# Altium footprint library XH2.54.PcbLib: 64 footprints (part 3 of 4)
Each footprint in its own frame and in the unit in brackets; x right, y up, seen from the top. Pads: shape width x height; smd on the part's side, far side on the other; paste and mask are expansions set on the pad; w line width, h text height; cw(c..) or ccw(c..) is an arc to the next point about the centre after c.
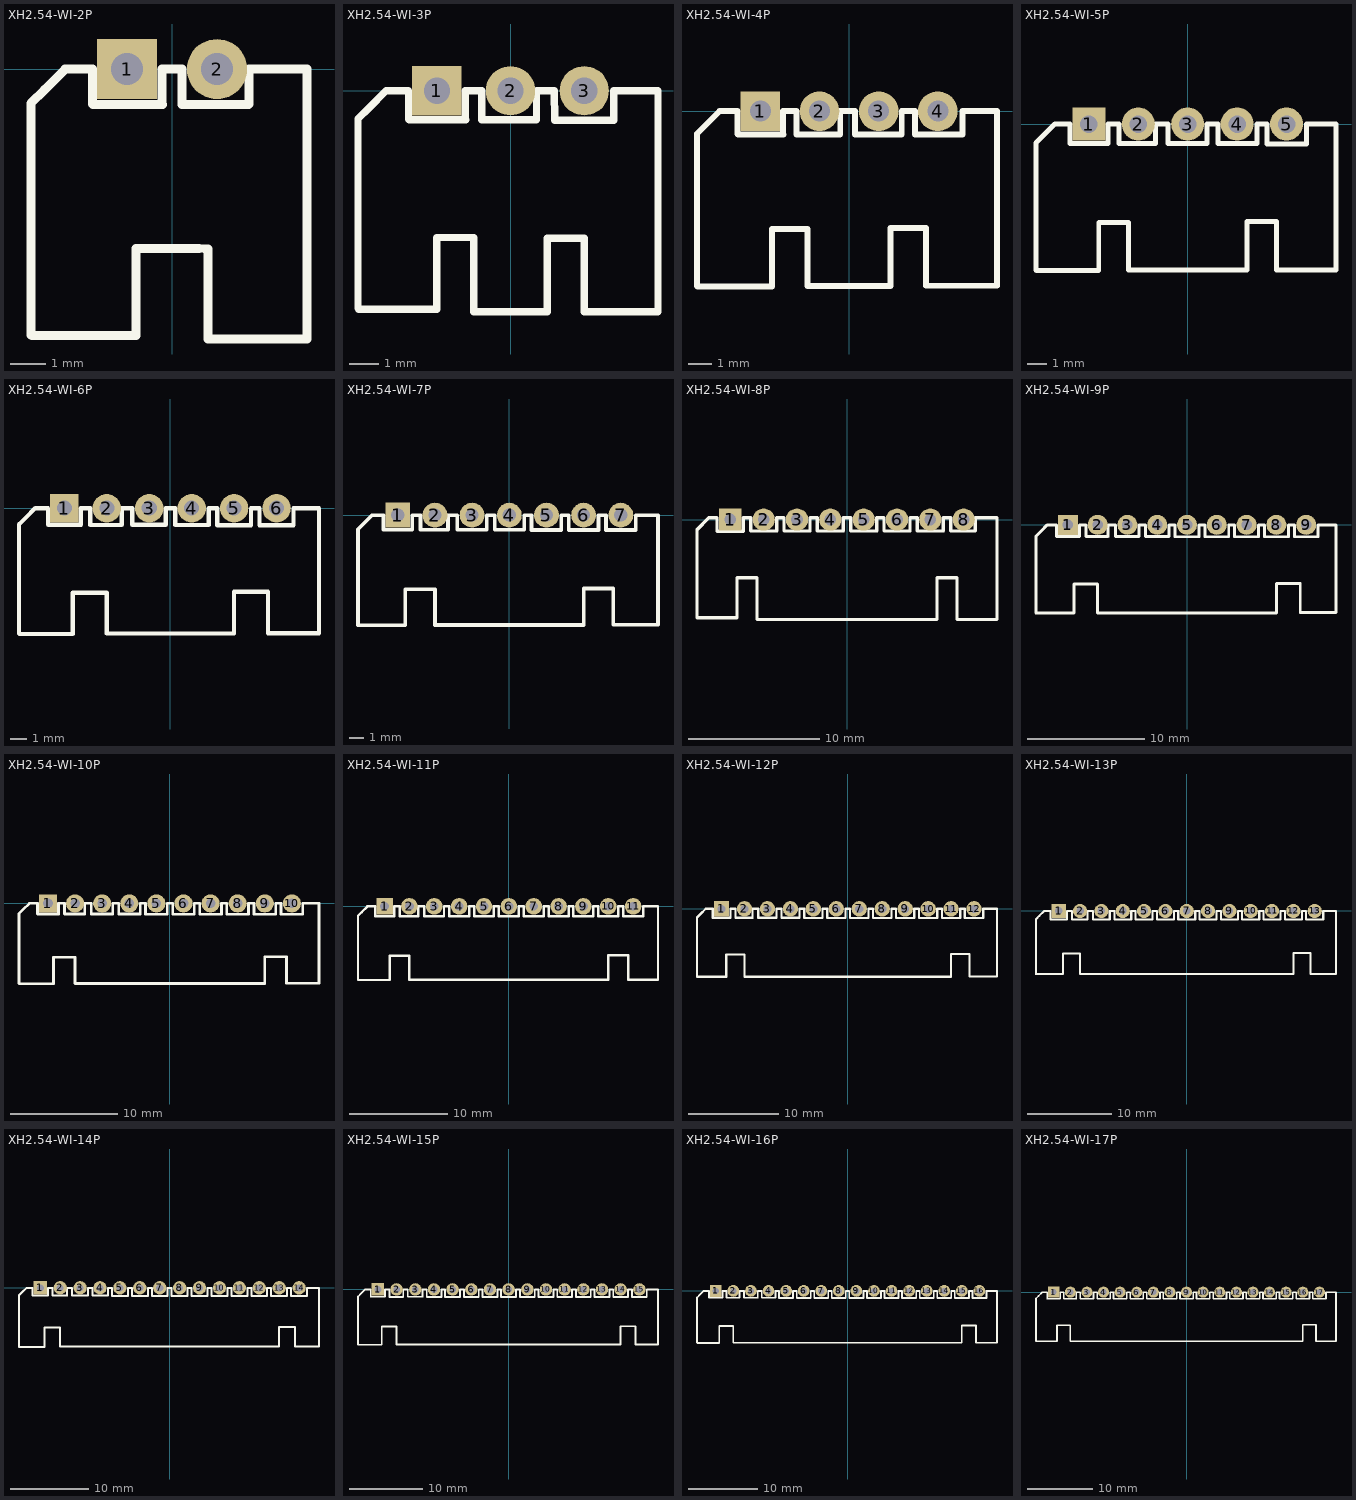
[diagram p2: the footprints below, top view; thin cyan lines are the x and y axes]

## XH2.54-WI-2P [mm] "接插件，2P"
pads (2):
  rect 1.7x1.7 hole 0.9: 1(-1.27,0)
  round 1.7 hole 0.9: 2(1.27,0)
Top Overlay:
  lines w0.254: 2.164,0 2.164,-0.988 2.15,-1.002 0.284,-1.002 0.284,0 -0.288,0 -0.288,-0.982 -0.274,-0.996 -2.23,-0.996 -2.244,-0.982 -2.244,0 -3.02,0 -3.602,-0.582 -3.986,-0.966 -3.986,-7.502 -3.96,-7.528 -1.016,-7.528 -1.016,-5.058 0.762,-5.058 1.016,-5.08 1.016,-7.62 1.27,-7.62 3.81,-7.62 3.81,0 2.774,0 2.176,0
3D body: height 5.73, standoff -3.37, extent -3.77,-7.35 3.77,0.35

## XH2.54-WI-3P [mm] "接插件，3P"
pads (3):
  rect 1.7x1.7 hole 0.9: 1(-2.54,0)
  round 1.7 hole 0.9: 2(0,0) 3(2.54,0)
Top Overlay:
  lines w0.254: 0.894,0 0.894,-0.988 0.88,-1.002 -0.986,-1.002 -0.986,0 -1.558,0 -1.558,-0.982 -1.544,-0.996 -3.5,-0.996 -3.514,-0.982 -3.514,0 -4.29,0 -4.872,-0.582 -5.256,-0.966 -5.256,-7.502 -5.23,-7.528 -2.54,-7.528 -2.54,-5.058 -1.27,-5.058 -1.27,-7.62 0,-7.62 1.27,-7.62 1.27,-5.08 2.54,-5.08 2.54,-7.62 5.08,-7.62 5.08,0 4.044,0 3.556,0 3.556,-1.016 1.524,-1.016 1.504,0 0.906,0
3D body: height 5.73, standoff -3.37, extent -5.04,-7.35 5.04,0.35

## XH2.54-WI-4P [mm] "接插件，4P"
pads (4):
  rect 1.7x1.7 hole 0.9: 1(-3.81,0)
  round 1.7 hole 0.9: 2(-1.27,0) 3(1.27,0) 4(3.81,0)
Top Overlay:
  lines w0.254: -0.376,0 -0.376,-0.988 -0.39,-1.002 -2.256,-1.002 -2.256,0 -2.828,0 -2.828,-0.982 -2.814,-0.996 -4.77,-0.996 -4.784,-0.982 -4.784,0 -5.56,0 -6.142,-0.582 -6.526,-0.966 -6.526,-7.502 -6.5,-7.528 -3.302,-7.528 -3.302,-5.058 -1.778,-5.058 -1.778,-7.502 1.778,-7.502 1.778,-5.006 3.302,-5.006 3.302,-7.49 6.35,-7.49 6.35,0 4.916,0 ; -0.364,0 0.234,0 ; 0.248,-0.996 0.248,0 ; 0.268,-0.996 2.256,-0.996 2.262,-0.99 2.262,0 2.808,0 ; 2.822,0 2.822,-1.002 4.876,-1.002 ; 4.876,-0.976 4.876,0
3D body: height 5.73, standoff -3.37, extent -6.31,-7.35 6.31,0.35

## XH2.54-WI-5P [mm] "接插件，5P"
pads (5):
  rect 1.7x1.7 hole 0.9: 1(-5.08,0)
  round 1.7 hole 0.9: 2(-2.54,0) 3(0,0) 4(2.54,0) 5(5.08,0)
Top Overlay:
  lines w0.254: -1.646,0 -1.646,-0.988 -1.66,-1.002 -3.526,-1.002 -3.526,0 -4.098,0 -4.098,-0.982 -4.084,-0.996 -6.04,-0.996 -6.054,-0.982 -6.054,0 -6.83,0 -7.412,-0.582 -7.796,-0.966 -7.796,-7.502 -7.77,-7.528 -4.572,-7.528 -4.572,-5.058 -3.048,-5.058 -3.048,-7.502 3.048,-7.502 3.048,-5.006 4.572,-5.006 4.572,-7.49 7.62,-7.49 7.62,0 6.096,0 6.096,-1.016 4.064,-1.016 4.064,0 3.556,0 3.556,-1.002 1.552,-1.002 1.552,0 ; -1.634,0 -1.036,0 ; -1.022,-0.996 -1.022,0 ; -1.002,-0.996 0.986,-0.996 0.992,-0.99 0.992,0 1.538,0
3D body: height 5.73, standoff -3.37, extent -7.58,-7.35 7.58,0.35

## XH2.54-WI-6P [mm] "接插件，6P"
pads (6):
  rect 1.7x1.7 hole 0.9: 1(-6.35,0)
  round 1.7 hole 0.9: 2(-3.81,0) 3(-1.27,0) 4(1.27,0) 5(3.81,0) 6(6.35,0)
Top Overlay:
  lines w0.254: -2.916,0 -2.916,-0.988 -2.93,-1.002 -4.796,-1.002 -4.796,0 -5.368,0 -5.368,-0.982 -5.354,-0.996 -7.31,-0.996 -7.324,-0.982 -7.324,0 -8.1,0 -8.682,-0.582 -9.066,-0.966 -9.066,-7.502 -9.04,-7.528 -5.842,-7.528 -5.842,-5.058 -3.81,-5.058 -3.81,-7.502 3.81,-7.502 3.81,-5.006 5.842,-5.006 5.842,-7.49 8.89,-7.49 8.89,0 7.366,0 7.366,-1.016 5.334,-1.016 5.334,0 4.826,0 4.826,-1.016 2.794,-1.016 2.794,0 2.286,0 2.286,-1.002 0.282,-1.002 0.282,0 ; -2.904,0 -2.306,0 ; -2.292,-0.996 -2.292,0 ; -2.272,-0.996 -0.284,-0.996 -0.278,-0.99 -0.278,0 0.268,0
3D body: height 5.75, standoff -3.35, extent -8.85,-7.35 8.85,0.35

## XH2.54-WI-7P [mm] "接插件，7P"
pads (7):
  rect 1.7x1.7 hole 0.9: 1(-7.62,0)
  round 1.7 hole 0.9: 2(-5.08,0) 3(-2.54,0) 4(0,0) 5(2.54,0) 6(5.08,0) 7(7.62,0)
Top Overlay:
  lines w0.254: -4.186,0 -4.186,-0.988 -4.2,-1.002 -6.066,-1.002 -6.066,0 -6.638,0 -6.638,-0.982 -6.624,-0.996 -8.58,-0.996 -8.594,-0.982 -8.594,0 -9.37,0 -9.952,-0.582 -10.336,-0.966 -10.336,-7.502 -10.31,-7.528 -7.112,-7.528 -7.112,-5.058 -5.08,-5.058 -5.08,-7.502 5.08,-7.502 5.08,-5.006 7.112,-5.006 7.112,-7.49 10.16,-7.49 10.16,0 8.636,0 8.636,-1.016 6.604,-1.016 6.604,0 6.096,0 6.096,-1.016 4.064,-1.016 4.064,0 3.556,0 3.556,-1.016 1.524,-1.016 1.524,0 1.016,0 1.016,-1.002 -0.988,-1.002 -0.988,0 ; -4.174,0 -3.576,0 ; -3.562,-0.996 -3.562,0 ; -3.542,-0.996 -1.554,-0.996 -1.548,-0.99 -1.548,0 -1.002,0
3D body: height 5.75, standoff -3.35, extent -10.12,-7.35 10.12,0.35

## XH2.54-WI-8P [mm] "接插件，8P"
pads (8):
  rect 1.7x1.7 hole 0.9: 1(-8.89,0)
  round 1.7 hole 0.9: 2(-6.35,0) 3(-3.81,0) 4(-1.27,0) 5(1.27,0) 6(3.81,0) 7(6.35,0) 8(8.89,0)
Top Overlay:
  lines w0.254: -7.352,0.127 -7.898,0.127 -7.898,-0.889 -9.906,-0.889 -9.906,0.127 -10.541,0.127 -11.43,-0.762 -11.43,-7.485 -8.382,-7.485 -8.382,-4.445 -6.858,-4.445 -6.858,-7.62 6.858,-7.62 6.858,-4.445 8.382,-4.445 8.382,-7.62 11.43,-7.62 11.43,0.127 9.779,0.127 9.779,-0.762 9.779,-0.875 7.902,-0.875 7.902,0.127 ; -7.338,0.127 -7.338,-0.875 -5.37,-0.875 -5.358,-0.863 -5.358,0.127 -4.812,0.127 ; -4.798,0.127 -4.798,-0.875 -2.83,-0.875 -2.818,-0.863 -2.818,0.127 -2.272,0.127 ; -2.258,0.127 -2.258,-0.875 -0.29,-0.875 -0.278,-0.863 -0.278,0.127 0.268,0.127 ; 0.282,0.127 0.282,-0.875 2.25,-0.875 2.262,-0.863 2.262,0.127 2.808,0.127 ; 2.822,0.127 2.822,-0.875 4.79,-0.875 4.802,-0.863 4.802,0.127 5.348,0.127 ; 5.362,0.127 5.362,-0.875 7.33,-0.875 7.342,-0.863 7.342,0.127 7.888,0.127
3D body: height 5.75, standoff -3.35, extent -11.39,-7.35 11.39,0.35

## XH2.54-WI-9P [mm] "接插件，9P"
pads (9):
  rect 1.7x1.7 hole 0.9: 1(-10.16,0)
  round 1.7 hole 0.9: 2(-7.62,0) 3(-5.08,0) 4(-2.54,0) 5(0,0) 6(2.54,0) 7(5.08,0) 8(7.62,0) 9(10.16,0)
Top Overlay:
  lines w0.254: -6.726,0 -6.726,-0.988 -6.74,-1.002 -8.606,-1.002 -8.606,0 -9.178,0 -9.178,-0.982 -9.164,-0.996 -11.12,-0.996 -11.134,-0.982 -11.134,0 -11.91,0 -12.492,-0.582 -12.876,-0.966 -12.876,-7.502 -12.85,-7.528 -9.652,-7.528 -9.652,-5.058 -7.62,-5.058 -7.62,-7.502 7.62,-7.502 7.62,-5.006 9.652,-5.006 9.652,-7.49 12.7,-7.49 12.7,0 11.176,0 11.176,-1.016 9.144,-1.016 9.144,0 8.636,0 8.636,-1.016 6.604,-1.016 6.604,0 6.096,0 6.096,-1.016 4.064,-1.016 4.064,0 3.556,0 3.556,-1.016 1.524,-1.016 1.524,0 1.016,0 1.016,-1.016 -1.016,-1.016 -1.016,0 -1.524,0 -1.524,-1.002 -3.528,-1.002 -3.528,0 ; -6.714,0 -6.116,0 ; -6.102,-0.996 -6.102,0 ; -6.082,-0.996 -4.094,-0.996 -4.088,-0.99 -4.088,0 -3.542,0
3D body: height 5.75, standoff -3.35, extent -12.66,-7.35 12.66,0.35

## XH2.54-WI-10P [mm] "接插件，10P"
pads (10):
  rect 1.7x1.7 hole 0.9: 1(-11.43,0)
  round 1.7 hole 0.9: 2(-8.89,0) 3(-6.35,0) 4(-3.81,0) 5(-1.27,0) 6(1.27,0) 7(3.81,0) 8(6.35,0) 9(8.89,0) 10(11.43,0)
Top Overlay:
  lines w0.254: -7.996,0 -7.996,-0.988 -8.01,-1.002 -9.876,-1.002 -9.876,0 -10.448,0 -10.448,-0.982 -10.434,-0.996 -12.39,-0.996 -12.404,-0.982 -12.404,0 -13.18,0 -13.762,-0.582 -14.146,-0.966 -14.146,-7.502 -14.12,-7.528 -10.922,-7.528 -10.922,-5.058 -8.89,-5.058 -8.89,-7.502 8.89,-7.502 8.89,-5.006 10.922,-5.006 10.922,-7.49 13.97,-7.49 13.97,0 12.446,0 12.446,-1.016 10.414,-1.016 10.414,0 9.906,0 9.906,-1.016 7.874,-1.016 7.874,0 7.366,0 7.366,-1.016 5.334,-1.016 5.334,0 4.826,0 4.826,-1.016 2.794,-1.016 2.794,0 2.286,0 2.286,-1.016 0.254,-1.016 0.254,0 -0.254,0 -0.254,-1.016 -2.286,-1.016 -2.286,0 -2.794,0 -2.794,-1.002 -4.798,-1.002 -4.798,0 ; -7.984,0 -7.386,0 ; -7.372,-0.996 -7.372,0 ; -7.352,-0.996 -5.364,-0.996 -5.358,-0.99 -5.358,0 -4.812,0
3D body: height 5.73, standoff -3.37, extent -13.93,-7.35 13.93,0.35

## XH2.54-WI-11P [mm] "接插件，11P"
pads (11):
  rect 1.7x1.7 hole 0.9: 1(-12.7,0)
  round 1.7 hole 0.9: 2(-10.16,0) 3(-7.62,0) 4(-5.08,0) 5(-2.54,0) 6(0,0) 7(2.54,0) 8(5.08,0) 9(7.62,0) 10(10.16,0) 11(12.7,0)
Top Overlay:
  lines w0.254: -9.266,0 -9.266,-0.988 -9.28,-1.002 -11.146,-1.002 -11.146,0 -11.718,0 -11.718,-0.982 -11.704,-0.996 -13.66,-0.996 -13.674,-0.982 -13.674,0 -14.45,0 -15.032,-0.582 -15.416,-0.966 -15.416,-7.502 -15.39,-7.528 -12.192,-7.528 -12.192,-5.058 -10.16,-5.058 -10.16,-7.502 10.16,-7.502 10.16,-5.006 12.192,-5.006 12.192,-7.49 15.24,-7.49 15.24,0 13.716,0 13.716,-1.016 11.684,-1.016 11.684,0 11.176,0 11.176,-1.016 9.144,-1.016 9.144,0 8.636,0 8.636,-1.016 6.604,-1.016 6.604,0 6.096,0 6.096,-1.016 4.064,-1.016 4.064,0 3.556,0 3.556,-1.016 1.524,-1.016 1.524,0 1.016,0 1.016,-1.016 -1.016,-1.016 -1.016,0 -1.524,0 -1.524,-1.016 -3.556,-1.016 -3.556,0 -4.064,0 -4.064,-1.002 -6.068,-1.002 -6.068,0 ; -9.254,0 -8.656,0 ; -8.642,-0.996 -8.642,0 ; -8.622,-0.996 -6.634,-0.996 -6.628,-0.99 -6.628,0 -6.082,0
3D body: height 5.73, standoff -3.37, extent -15.2,-7.35 15.2,0.35

## XH2.54-WI-12P [mm] "接插件，12P"
pads (12):
  rect 1.7x1.7 hole 0.9: 1(-13.97,0)
  round 1.7 hole 0.9: 2(-11.43,0) 3(-8.89,0) 4(-6.35,0) 5(-3.81,0) 6(-1.27,0) 7(1.27,0) 8(3.81,0) 9(6.35,0) 10(8.89,0) 11(11.43,0) 12(13.97,0)
Top Overlay:
  lines w0.254: -10.536,0 -10.536,-0.988 -10.55,-1.002 -12.416,-1.002 -12.416,0 -12.988,0 -12.988,-0.982 -12.974,-0.996 -14.93,-0.996 -14.944,-0.982 -14.944,0 -15.72,0 -16.302,-0.582 -16.686,-0.966 -16.686,-7.502 -16.66,-7.528 -13.462,-7.528 -13.462,-5.058 -11.43,-5.058 -11.43,-7.502 11.43,-7.502 11.43,-5.006 13.462,-5.006 13.462,-7.49 16.51,-7.49 16.51,0 14.986,0 14.986,-1.016 12.954,-1.016 12.954,0 12.446,0 12.446,-1.016 10.414,-1.016 10.414,0 9.906,0 9.906,-1.016 7.874,-1.016 7.874,0 7.366,0 7.366,-1.016 5.334,-1.016 5.334,0 4.826,0 4.826,-1.016 2.794,-1.016 2.794,0 2.286,0 2.286,-1.016 0.254,-1.016 0.254,0 -0.254,0 -0.254,-1.016 -2.286,-1.016 -2.286,0 -2.794,0 -2.794,-1.016 -4.826,-1.016 -4.826,0 -5.334,0 -5.334,-1.002 -7.338,-1.002 -7.338,0 ; -10.524,0 -9.926,0 ; -9.912,-0.996 -9.912,0 ; -9.892,-0.996 -7.904,-0.996 -7.898,-0.99 -7.898,0 -7.352,0
3D body: height 5.75, standoff -3.35, extent -16.47,-7.35 16.47,0.35

## XH2.54-WI-13P [mm] "接插件，13P"
pads (13):
  rect 1.7x1.7 hole 0.9: 1(-15.24,0)
  round 1.7 hole 0.9: 2(-12.7,0) 3(-10.16,0) 4(-7.62,0) 5(-5.08,0) 6(-2.54,0) 7(0,0) 8(2.54,0) 9(5.08,0) 10(7.62,0) 11(10.16,0) 12(12.7,0) 13(15.24,0)
Top Overlay:
  lines w0.254: -11.806,0 -11.806,-0.988 -11.82,-1.002 -13.686,-1.002 -13.686,0 -14.258,0 -14.258,-0.982 -14.244,-0.996 -16.2,-0.996 -16.214,-0.982 -16.214,0 -16.99,0 -17.572,-0.582 -17.956,-0.966 -17.956,-7.502 -17.93,-7.528 -14.732,-7.528 -14.732,-5.058 -12.7,-5.058 -12.7,-7.502 12.7,-7.502 12.7,-5.006 14.732,-5.006 14.732,-7.49 17.78,-7.49 17.78,0 16.256,0 16.256,-1.016 14.224,-1.016 14.224,0 13.716,0 13.716,-1.016 11.684,-1.016 11.684,0 11.176,0 11.176,-1.016 9.144,-1.016 9.144,0 8.636,0 8.636,-1.016 6.604,-1.016 6.604,0 6.096,0 6.096,-1.016 4.064,-1.016 4.064,0 3.556,0 3.556,-1.016 1.524,-1.016 1.524,0 1.016,0 1.016,-1.016 -1.016,-1.016 -1.016,0 -1.524,0 -1.524,-1.016 -3.556,-1.016 -3.556,0 -4.064,0 -4.064,-1.016 -6.096,-1.016 -6.096,0 -6.604,0 -6.604,-1.002 -8.608,-1.002 -8.608,0 ; -11.794,0 -11.196,0 ; -11.182,-0.996 -11.182,0 ; -11.162,-0.996 -9.174,-0.996 -9.168,-0.99 -9.168,0 -8.622,0
3D body: height 5.75, standoff -3.35, extent -17.74,-7.35 17.74,0.35

## XH2.54-WI-14P [mm] "接插件，14P"
pads (14):
  rect 1.7x1.7 hole 0.9: 1(-16.51,0)
  round 1.7 hole 0.9: 2(-13.97,0) 3(-11.43,0) 4(-8.89,0) 5(-6.35,0) 6(-3.81,0) 7(-1.27,0) 8(1.27,0) 9(3.81,0) 10(6.35,0) 11(8.89,0) 12(11.43,0) 13(13.97,0) 14(16.51,0)
Top Overlay:
  lines w0.254: -13.076,0 -13.076,-0.988 -13.09,-1.002 -14.956,-1.002 -14.956,0 -15.528,0 -15.528,-0.982 -15.514,-0.996 -17.47,-0.996 -17.484,-0.982 -17.484,0 -18.26,0 -18.842,-0.582 -19.226,-0.966 -19.226,-7.502 -19.2,-7.528 -16.002,-7.528 -16.002,-5.058 -13.97,-5.058 -13.97,-7.502 13.97,-7.502 13.97,-5.006 16.002,-5.006 16.002,-7.49 19.05,-7.49 19.05,0 17.526,0 17.526,-1.016 15.494,-1.016 15.494,0 14.986,0 14.986,-1.016 12.954,-1.016 12.954,0 12.446,0 12.446,-1.016 10.414,-1.016 10.414,0 9.906,0 9.906,-1.016 7.874,-1.016 7.874,0 7.366,0 7.366,-1.016 5.334,-1.016 5.334,0 4.826,0 4.826,-1.016 2.794,-1.016 2.794,0 2.286,0 2.286,-1.016 0.254,-1.016 0.254,0 -0.254,0 -0.254,-1.016 -2.286,-1.016 -2.286,0 -2.794,0 -2.794,-1.016 -4.826,-1.016 -4.826,0 -5.334,0 -5.334,-1.016 -7.366,-1.016 -7.366,0 -7.874,0 -7.874,-1.002 -9.878,-1.002 -9.878,0 ; -13.064,0 -12.466,0 ; -12.452,-0.996 -12.452,0 ; -12.432,-0.996 -10.444,-0.996 -10.438,-0.99 -10.438,0 -9.892,0
3D body: height 5.75, standoff -3.35, extent -19.01,-7.35 19.01,0.35

## XH2.54-WI-15P [mm] "接插件，15P"
pads (15):
  rect 1.7x1.7 hole 0.9: 1(-17.78,0)
  round 1.7 hole 0.9: 2(-15.24,0) 3(-12.7,0) 4(-10.16,0) 5(-7.62,0) 6(-5.08,0) 7(-2.54,0) 8(0,0) 9(2.54,0) 10(5.08,0) 11(7.62,0) 12(10.16,0) 13(12.7,0) 14(15.24,0) 15(17.78,0)
Top Overlay:
  lines w0.254: -14.346,0 -14.346,-0.988 -14.36,-1.002 -16.226,-1.002 -16.226,0 -16.798,0 -16.798,-0.982 -16.784,-0.996 -18.74,-0.996 -18.754,-0.982 -18.754,0 -19.53,0 -20.112,-0.582 -20.496,-0.966 -20.496,-7.502 -20.47,-7.528 -17.272,-7.528 -17.272,-5.058 -15.24,-5.058 -15.24,-7.502 15.24,-7.502 15.24,-5.006 17.272,-5.006 17.272,-7.49 20.32,-7.49 20.32,0 18.796,0 18.796,-1.016 16.764,-1.016 16.764,0 16.256,0 16.256,-1.016 14.224,-1.016 14.224,0 13.716,0 13.716,-1.016 11.684,-1.016 11.684,0 11.176,0 11.176,-1.016 9.144,-1.016 9.144,0 8.636,0 8.636,-1.016 6.604,-1.016 6.604,0 6.096,0 6.096,-1.016 4.064,-1.016 4.064,0 3.556,0 3.556,-1.016 1.524,-1.016 1.524,0 1.016,0 1.016,-1.016 -1.016,-1.016 -1.016,0 -1.524,0 -1.524,-1.016 -3.556,-1.016 -3.556,0 -4.064,0 -4.064,-1.016 -6.096,-1.016 -6.096,0 -6.604,0 -6.604,-1.016 -8.636,-1.016 -8.636,0 -9.144,0 -9.144,-1.002 -11.148,-1.002 -11.148,0 ; -14.334,0 -13.736,0 ; -13.722,-0.996 -13.722,0 ; -13.702,-0.996 -11.714,-0.996 -11.708,-0.99 -11.708,0 -11.162,0
3D body: height 5.75, standoff -3.35, extent -20.28,-7.35 20.28,0.35

## XH2.54-WI-16P [mm] "接插件，16P"
pads (16):
  rect 1.7x1.7 hole 0.9: 1(-19.05,0)
  round 1.7 hole 0.9: 2(-16.51,0) 3(-13.97,0) 4(-11.43,0) 5(-8.89,0) 6(-6.35,0) 7(-3.81,0) 8(-1.27,0) 9(1.27,0) 10(3.81,0) 11(6.35,0) 12(8.89,0) 13(11.43,0) 14(13.97,0) 15(16.51,0) 16(19.05,0)
Top Overlay:
  lines w0.254: -15.616,0 -15.616,-0.988 -15.63,-1.002 -17.496,-1.002 -17.496,0 -18.068,0 -18.068,-0.982 -18.054,-0.996 -20.01,-0.996 -20.024,-0.982 -20.024,0 -20.8,0 -21.382,-0.582 -21.766,-0.966 -21.766,-7.502 -21.74,-7.528 -18.542,-7.528 -18.542,-5.058 -16.51,-5.058 -16.51,-7.502 16.51,-7.502 16.51,-5.006 18.542,-5.006 18.542,-7.49 21.59,-7.49 21.59,0 20.066,0 20.066,-1.016 18.034,-1.016 18.034,0 17.526,0 17.526,-1.016 15.494,-1.016 15.494,0 14.986,0 14.986,-1.016 12.954,-1.016 12.954,0 12.446,0 12.446,-1.016 10.414,-1.016 10.414,0 9.906,0 9.906,-1.016 7.874,-1.016 7.874,0 7.366,0 7.366,-1.016 5.334,-1.016 5.334,0 4.826,0 4.826,-1.016 2.794,-1.016 2.794,0 2.286,0 2.286,-1.016 0.254,-1.016 0.254,0 -0.254,0 -0.254,-1.016 -2.286,-1.016 -2.286,0 -2.794,0 -2.794,-1.016 -4.826,-1.016 -4.826,0 -5.334,0 -5.334,-1.016 -7.366,-1.016 -7.366,0 -7.874,0 -7.874,-1.016 -9.906,-1.016 -9.906,0 -10.414,0 -10.414,-1.002 -12.418,-1.002 -12.418,0 ; -15.604,0 -15.006,0 ; -14.992,-0.996 -14.992,0 ; -14.972,-0.996 -12.984,-0.996 -12.978,-0.99 -12.978,0 -12.432,0
3D body: height 5.75, standoff -3.35, extent -21.55,-7.35 21.55,0.35

## XH2.54-WI-17P [mm] "接插件，17P"
pads (17):
  rect 1.7x1.7 hole 0.9: 1(-20.32,0)
  round 1.7 hole 0.9: 2(-17.78,0) 3(-15.24,0) 4(-12.7,0) 5(-10.16,0) 6(-7.62,0) 7(-5.08,0) 8(-2.54,0) 9(0,0) 10(2.54,0) 11(5.08,0) 12(7.62,0) 13(10.16,0) 14(12.7,0) 15(15.24,0) 16(17.78,0) 17(20.32,0)
Top Overlay:
  lines w0.254: -16.886,0 -16.886,-0.988 -16.9,-1.002 -18.766,-1.002 -18.766,0 -19.338,0 -19.338,-0.982 -19.324,-0.996 -21.28,-0.996 -21.294,-0.982 -21.294,0 -22.07,0 -22.652,-0.582 -23.036,-0.966 -23.036,-7.502 -23.01,-7.528 -19.812,-7.528 -19.812,-5.058 -17.78,-5.058 -17.78,-7.502 17.78,-7.502 17.78,-5.006 19.812,-5.006 19.812,-7.49 22.86,-7.49 22.86,0 21.336,0 21.336,-1.016 19.304,-1.016 19.304,0 18.796,0 18.796,-1.016 16.764,-1.016 16.764,0 16.256,0 ; -16.874,0 -16.276,0 ; -16.262,-0.996 -16.262,0 ; -16.242,-0.996 -14.254,-0.996 -14.248,-0.99 -14.248,0 -13.702,0 ; -13.688,0 -13.688,-1.002 -11.684,-1.002 -11.684,0 -11.176,0 -11.176,-1.016 -9.144,-1.016 -9.144,0 -8.636,0 -8.636,-1.016 -6.604,-1.016 -6.604,0 -6.096,0 -6.096,-1.016 -4.064,-1.016 -4.064,0 -3.556,0 -3.556,-1.016 -1.524,-1.016 -1.524,0 -1.016,0 -1.016,-1.016 1.016,-1.016 1.016,0 1.524,0 1.524,-1.016 3.556,-1.016 3.556,0 4.064,0 4.064,-1.016 6.096,-1.016 6.096,0 6.604,0 6.604,-1.016 8.636,-1.016 8.636,0 9.144,0 9.144,-1.016 11.176,-1.016 11.176,0 11.684,0 11.684,-1.016 13.716,-1.016 13.716,0 ; 13.716,0 14.224,0 ; 13.716,0 14.224,0 ; 14.224,-1.016 16.256,-1.016 ; 14.224,-1.016 14.224,0 ; 14.224,-1.016 16.256,-1.016 ; 14.224,-1.016 14.224,0 ; 16.256,-1.016 16.256,0 ; 16.256,-1.016 16.256,0
3D body: height 5.75, standoff -3.35, extent -22.82,-7.35 22.82,0.35